# EAGLE library part ATTINY10 (library myparts)
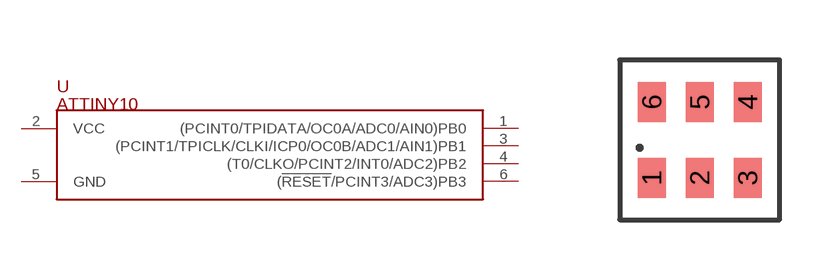
[diagram p20: symbol with the pads of SOT-23; footprint SOT-23]

Designator prefix -

## ATTINY10  [SOT-23]
1  (PCINT0/TPIDATA/OC0A/ADC0/AIN0)PB0
2  VCC  pwr
3  (PCINT1/TPICLK/CLKI/ICP0/OC0B/ADC1/AIN1)PB1
4  (T0/CLKO/PCINT2/INT0/ADC2)PB2
5  GND  pwr
6  (!RESET!/PCINT3/ADC3)PB3

## Footprint SOT-23 (pad centres in mm)
smd 0.7 x 1: 1 -1.2,-0.95; 2 0,-0.95; 3 1.2,-0.95; 4 1.2,0.95; 5 0,0.95; 6 -1.2,0.95